# Altium integrated library Altium_okruh_miscLib.IntLib: 11 symbols
Pins are listed as number, name and electrical type; pins without a type are passive.

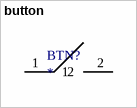
[diagram p0: symbol button]

## button
designator BTN?
footprint 5x5x1.5MM
footprint TD-02XB
pins: 1, 2


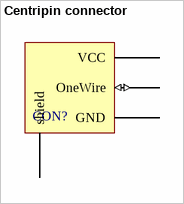
[diagram p1: symbol Centripin connector]

## Centripin connector
designator CON?  (value not drawn)
7.4x5mm
footprint Dell_centripin
pins: 0 shield, 1 GND, 2 OneWire (io), 3 VCC (power)


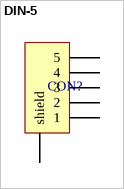
[diagram p2: symbol DIN-5]

## DIN-5
designator CON?  (value not drawn)
footprint DIN-5 (midi connector)
pins: 0 shield, 1, 2, 3, 4, 5


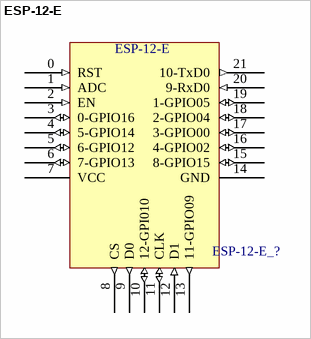
[diagram p3: symbol ESP-12-E]

## ESP-12-E
designator ESP-12-E_?  (value not drawn)
footprint ES-12-E_pads
pins: 0 RST (in), 1 ADC (in), 2 EN (in), 3 0-GPIO16 (io), 4 5-GPIO14 (io), 5 6-GPIO12 (io), 6 7-GPIO13 (io), 7 VCC (power), 8 CS (out), 9 D0 (out), 10 12-GPI010 (io), 11 CLK (io), 12 D1 (in), 13 11-GPIO09 (out), 14 GND (power), 15 8-GPIO15 (io), 16 4-GPIO02 (io), 17 3-GPIO00 (io), 18 2-GPIO04 (io), 19 1-GPIO05 (io), 20 9-RxD0 (in), 21 10-TxD0 (out)


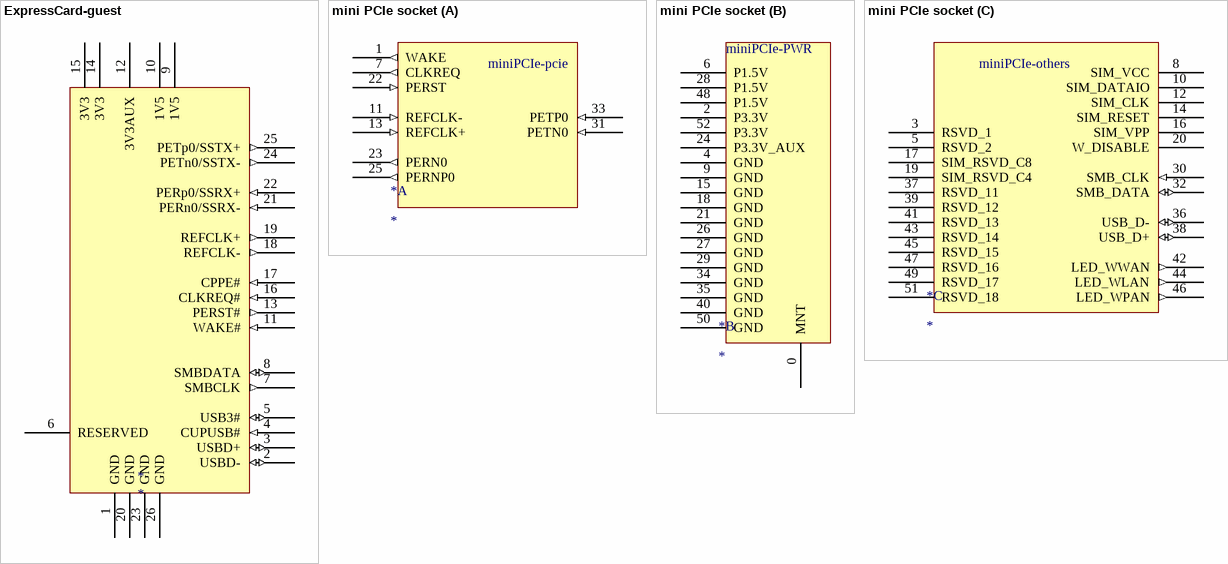
[diagram p4: symbols ExpressCard-guest to mini PCIe socket]

## ExpressCard-guest
designator *
footprint ExpressCard-guest
pins: 1 GND (power), 2 USBD- (io), 3 USBD+ (io), 4 CUPUSB# (in), 5 USB3# (io), 6 RESERVED, 7 SMBCLK (out), 8 SMBDATA (io), 9 1V5 (power), 10 1V5, 11 WAKE# (in), 12 3V3AUX (power), 13 PERST# (out), 14 3V3 (power), 15 3V3 (power), 16 CLKREQ# (in), 17 CPPE# (in), 18 REFCLK- (out), 19 REFCLK+ (out), 20 GND (power), 21 PERn0/SSRX- (in), 22 PERp0/SSRX+ (in), 23 GND (power), 24 PETn0/SSTX- (out), 25 PETp0/SSTX+ (out), 26 GND (power)

## mini PCIe socket
designator *
footprint miniPCIe socket
part A pins: 1 WAKE (out), 7 CLKREQ (out), 11 REFCLK- (in), 13 REFCLK+ (in), 22 PERST (in), 23 PERN0 (out), 25 PERNP0 (out), 31 PETN0 (in), 33 PETP0 (in)
part B pins: 0 MNT, 2 P3.3V (power), 4 GND (power), 6 P1.5V (power), 9 GND (power), 15 GND (power), 18 GND (power), 21 GND (power), 24 P3.3V_AUX (power), 26 GND (power), 27 GND (power), 28 P1.5V, 29 GND (power), 34 GND (power), 35 GND (power), 40 GND (power), 48 P1.5V (power), 50 GND (power), 52 P3.3V (power)
part C pins: 3 RSVD_1, 5 RSVD_2, 8 SIM_VCC (power), 10 SIM_DATAIO, 12 SIM_CLK, 14 SIM_RESET, 16 SIM_VPP, 17 SIM_RSVD_C8, 19 SIM_RSVD_C4, 20 W_DISABLE, 30 SMB_CLK (in), 32 SMB_DATA (io), 36 USB_D- (io), 37 RSVD_11, 38 USB_D+ (io), 39 RSVD_12, 41 RSVD_13, 42 LED_WWAN (out), 43 RSVD_14, 44 LED_WLAN (out), 45 RSVD_15, 46 LED_WPAN (out), 47 RSVD_16, 49 RSVD_17, 51 RSVD_18
part A text: miniPCIe-pcie
part B text: miniPCIe-PWR
part C text: miniPCIe-others


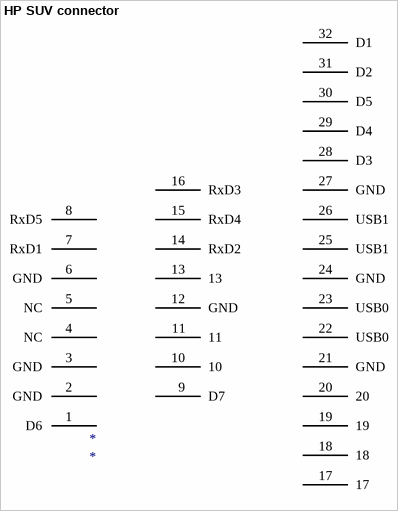
[diagram p5: symbol HP SUV connector]

## HP SUV connector
designator *
pins: 1 D6, 2 GND, 3 GND, 4 NC, 5 NC, 6 GND, 7 RxD1, 8 RxD5, 9 D7, 10, 11, 12 GND, 13, 14 RxD2, 15 RxD4, 16 RxD3, 17, 18, 19, 20, 21 GND, 22 USB0, 23 USB0, 24 GND, 25 USB1, 26 USB1, 27 GND, 28 D3, 29 D4, 30 D5, 31 D2, 32 D1


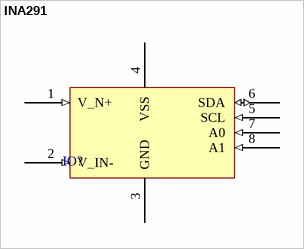
[diagram p6: symbol INA291]

## INA291
designator IO?
Zerø-Drift, Bi-Directional  CURRENT/POWER MONITOR with I2C™ Interface
footprint SOT23-8 (SSOP; 8 Leads; Body Width 1.6 mm; Pitch 0.65 mm)
pins: 1 V_N+ (in), 2 V_IN- (in), 3 GND (power), 4 VSS (power), 5 SCL (in), 6 SDA (io), 7 A0 (in), 8 A1 (in)


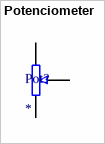
[diagram p7: symbol Potenciometer]

## Potenciometer
designator Pot?
Value: *
footprint 3590  potenciometer (3590 multiturn precise potenciometer)
pins: 1, 2, 3


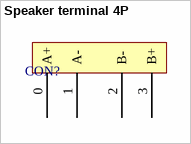
[diagram p8: symbol Speaker terminal 4P]

## Speaker terminal 4P
designator CON?  (value not drawn)
footprint Speaker termina 4x DPS
pins: 0 A+, 1 A-, 2 B-, 3 B+


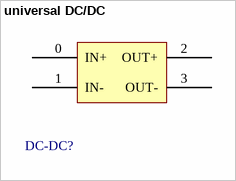
[diagram p9: symbol universal DC/DC]

## universal DC/DC
designator DC-DC?  (value not drawn)
footprint MP1584EN dc/dc 3A
footprint MP1584EN dc/dc 3A vertical
pins: 0 IN+ (power), 1 IN- (power), 2 OUT+ (power), 3 OUT- (power)